# Altium schematic symbol library Conn-3pos.SchLib: 1 symbol
Pins are listed as number, name and electrical type; pins without a type are passive.

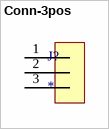
[diagram p0: symbol Conn-3pos]

## Conn-3pos
designator J?
pins: 1, 2, 3